# Altium footprint library KSC253JSPDELTALFG.PcbLib: 1 footprints
Each footprint in its own frame and in the unit in brackets; x right, y up, seen from the top. Pads: shape width x height; smd on the part's side, far side on the other; paste and mask are expansions set on the pad; w line width, h text height; cw(c..) or ccw(c..) is an arc to the next point about the centre after c.
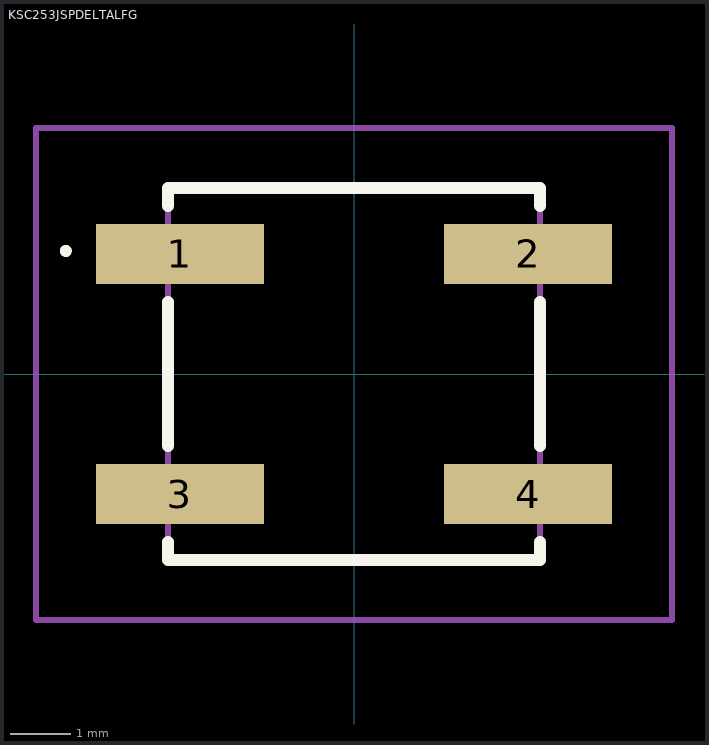
[diagram p0: the footprint, top view; thin cyan lines are the x and y axes]

## KSC253JSPDELTALFG [mm]
pads (4):
  rect 2.8x1 smd: 1(-2.9,2) 2(2.9,2) 3(-2.9,-2) 4(2.9,-2)
Top Overlay:
  lines w0.1: -4.8,2 cw(c-4.8,2.05) -4.8,2.1 ; -4.8,2 -4.8,2 ; -4.8,2 ccw(c-4.8,2.05) -4.8,2.1 ; -4.8,2.1 -4.8,2.1
  lines w0.2: -3.1,-2.8 -3.1,-3.1 3.1,-3.1 3.1,-2.8 ; -3.1,-1.2 -3.1,1.2 ; -3.1,2.8 -3.1,3.1 3.1,3.1 3.1,2.8 ; 3.1,-1.2 3.1,1.2
Mechanical 15:
  lines w0.1: -3.1,-3.1 3.1,-3.1 3.1,3.1 -3.1,3.1 -3.1,-3.1
Mechanical 20:
  lines w0.1: -5.3,-4.1 5.3,-4.1 5.3,4.1 -5.3,4.1 -5.3,-4.1